# Altium schematic symbol library SG5032VAN.SchLib: 1 symbol
Pins are listed as number, name and electrical type; pins without a type are passive.

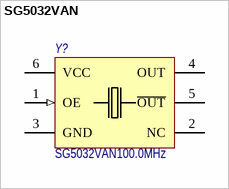
[diagram p0: symbol SG5032VAN]

## SG5032VAN
designator Y?  Наименование: SG5032VAN100.0MHz  (hidden comment: SG5032VAN)
Crystal oscillator, LVDS; Потребление, Вт: 0.07; Назначение: Crystal oscillator, LVDS; ComponentLink1Description: DataSheet; ComponentLink1URL: https://ru.mouser.com/datasheet/2/137/SG3225EAN_en-961615.pdf; Supplier 1: Digi-Key; Supplier Part Number 1: SER3979CT-ND
footprint VCO_6_50x32 (SON, 6-Leads, Body 5,00x3,20mm, Pitch 1,27mm, IPC Medium Density)
pins: 1 OE (in), 2 NC "Frequency signal out", 3 GND (power), 4 OUT "Frequency signal out", 5 ~{OUT} "Enable/~Disable", 6 VCC (power)